# Altium footprint library Potentiometer.PcbLib: 8 footprints
Each footprint in its own frame and in the unit in brackets; x right, y up, seen from the top. Pads: shape width x height; smd on the part's side, far side on the other; paste and mask are expansions set on the pad; w line width, h text height; cw(c..) or ccw(c..) is an arc to the next point about the centre after c.
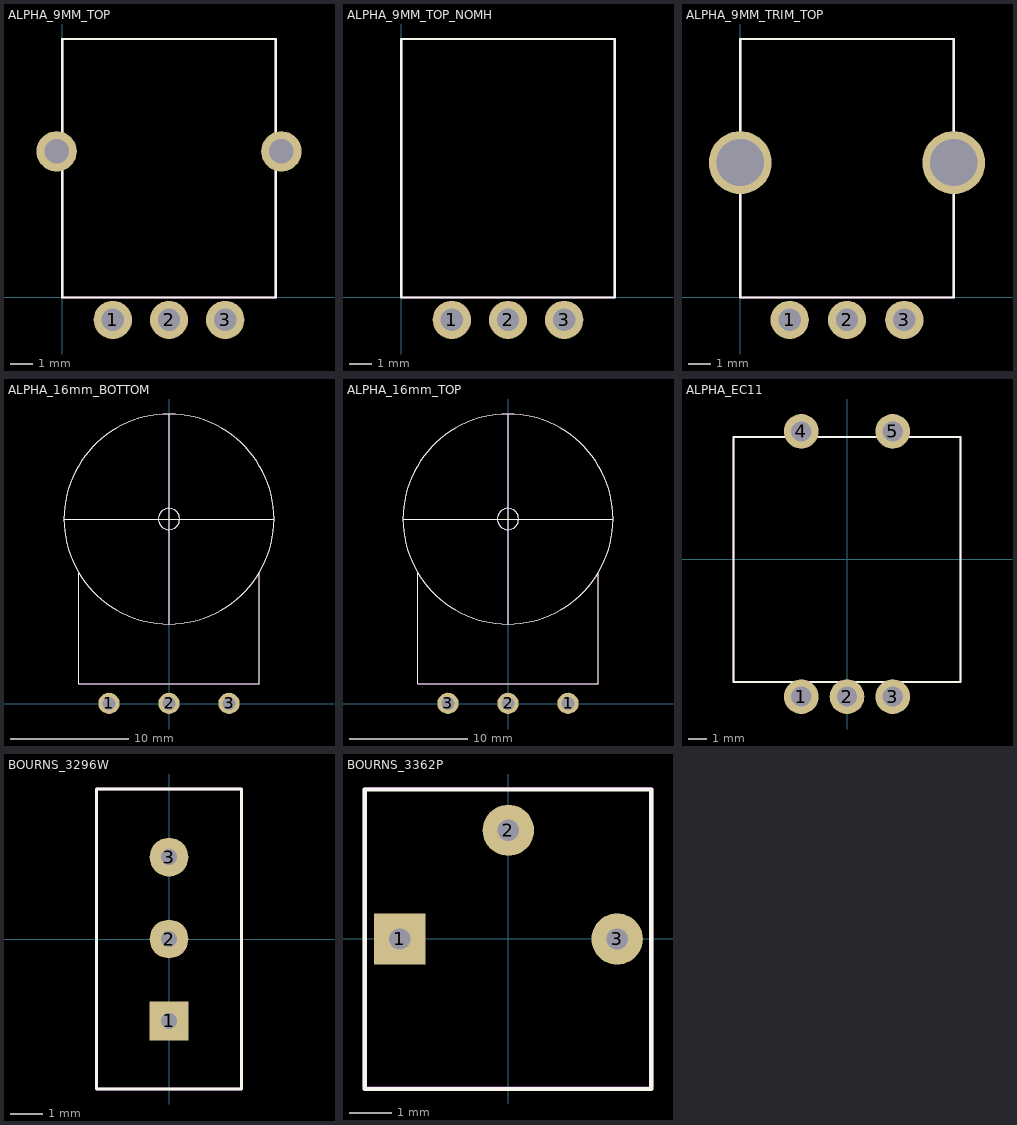
[diagram p0: the footprints below, top view; thin cyan lines are the x and y axes]

## ALPHA_9MM_TOP [mm]
pads (5):
  round 1.7 hole 1: 1(2.25,-1) 2(4.75,-1) 3(7.25,-1)
  round 1.8 hole 1.1: ""(-0.25,6.5) ""(9.75,6.5)
Top Overlay:
  lines w0.1: 0,0 0,11.5 9.5,11.5 9.5,0 0,0
Mechanical 2:
  lines w0.1: 0,0 0,11.5 9.5,11.5 9.5,0 0,0
3D body "ALPHA_9mm.step": height 30.04, standoff -3.6, extent -1.018,-0.993 10.511,11.357

## ALPHA_9MM_TOP_NOMH [mm]
pads (3):
  round 1.7 hole 1: 1(2.25,-1) 2(4.75,-1) 3(7.25,-1)
Top Overlay:
  lines w0.1: 0,0 0,11.5 9.5,11.5 9.5,0 0,0
Mechanical 2:
  lines w0.1: 0,0 0,11.5 9.5,11.5 9.5,0 0,0
3D body "ALPHA_9mm.step": height 30.04, standoff -3.6, extent -1.018,-0.993 10.511,11.357

## ALPHA_9MM_TRIM_TOP [mm]
pads (5):
  round 1.7 hole 1: 1(2.199,-1) 2(4.75,-1) 3(7.301,-1)
  round 2.8 hole 2.1: ""(0,6) ""(9.5,6)
Top Overlay:
  lines w0.1: 0,0 9.5,0 9.5,11.5 0,11.5 0,0
Mechanical 2:
  lines w0.1: 0,0 9.5,0 9.5,11.5 0,11.5 0,0
3D body "ALPHA_9mm_TRIM.step": height 29.4, standoff -3.79, extent -0.942,-1.15 10.442,11.5

## ALPHA_16mm_BOTTOM [mm]
pads (3):
  round 1.8 hole 1.1: 1(-5.08,0.016) 2(0,0.016) 3(5.08,0.016)
Top Overlay:
  circle w0.1: c0,15.621 r0.898
  circle w0.1: c0,15.621 r0.898
  lines w0.1: -8.89,15.621 ccw(c0,15.621) 0,6.731 ; -8.89,15.621 cw(c0,15.621) 0,24.511 ; -8.89,15.621 cw(c0,15.621) 0,24.511 ; -8.89,15.621 ccw(c0,15.621) 0,6.731 ; -8.89,15.621 8.89,15.621 ; -8.89,15.621 8.89,15.621 ; -7.62,1.667 7.62,1.667 ; -7.62,1.667 7.62,1.667 ; -7.62,1.667 -7.62,11.024 -7.62,1.667 ; 0,6.731 ccw(c0,15.621) 8.89,15.621 ; 0,6.731 ccw(c0,15.621) 8.89,15.621 ; 0,6.731 0,24.511 ; 0,6.731 0,24.511 ; 0,24.511 cw(c0,15.621) 8.89,15.621 ; 0,24.511 cw(c0,15.621) 8.89,15.621 ; 7.62,1.667 7.62,11.024 7.62,1.667
Mechanical 2:
  circle w0.1: c0,15.621 r0.898
  circle w0.1: c0,15.621 r0.898
  lines w0.1: -8.89,15.621 ccw(c0,15.621) 0,6.731 ; -8.89,15.621 cw(c0,15.621) 0,24.511 ; -8.89,15.621 cw(c0,15.621) 0,24.511 ; -8.89,15.621 ccw(c0,15.621) 0,6.731 ; -8.89,15.621 8.89,15.621 ; -8.89,15.621 8.89,15.621 ; -7.62,1.667 -7.62,11.024 -7.62,1.667 ; -7.62,1.667 7.62,1.667 ; -7.62,1.667 7.62,1.667 ; 0,6.731 ccw(c0,15.621) 8.89,15.621 ; 0,6.731 ccw(c0,15.621) 8.89,15.621 ; 0,6.731 0,24.511 ; 0,6.731 0,24.511 ; 0,24.511 cw(c0,15.621) 8.89,15.621 ; 0,24.511 cw(c0,15.621) 8.89,15.621 ; 7.62,1.667 7.62,11.024 7.62,1.667
3D body: height 0.25, standoff 0, extent 11.303,14.224 11.303,14.224
3D body: height 0.25, standoff 0, extent 11.303,13.843 11.303,13.843
3D body "ALPHA_16mm.STEP": height 27.09, standoff -3.41, extent -8.992,-0.311 9.008,24.949

## ALPHA_16mm_TOP [mm]
pads (3):
  round 1.8 hole 1.1: 1(5.08,0.016) 2(0,0.016) 3(-5.08,0.016)
Top Overlay:
  circle w0.1: c0,15.621 r0.898
  lines w0.1: -7.62,11.024 -7.62,1.667 7.62,1.667 7.62,11.024 ; -8.89,15.621 cw(c0,15.621) 0,24.511 ; -8.89,15.621 ccw(c0,15.621) 0,6.731 ; -8.89,15.621 8.89,15.621 ; 0,6.731 ccw(c0,15.621) 8.89,15.621 ; 0,6.731 0,24.511 ; 0,24.511 cw(c0,15.621) 8.89,15.621
Mechanical 2:
  circle w0.1: c0,15.621 r0.898
  lines w0.1: -7.62,11.024 -7.62,1.667 7.62,1.667 7.62,11.024 ; -8.89,15.621 ccw(c0,15.621) 0,6.731 ; -8.89,15.621 cw(c0,15.621) 0,24.511 ; -8.89,15.621 8.89,15.621 ; 0,6.731 ccw(c0,15.621) 8.89,15.621 ; 0,6.731 0,24.511 ; 0,24.511 cw(c0,15.621) 8.89,15.621
3D body: height 0.25, standoff 0, extent 11.303,14.224 11.303,14.224
3D body: height 0.25, standoff 0, extent 11.303,13.843 11.303,13.843
3D body "User Library-User Library-Potentiometer.STEP": height 24.38, standoff 0.25, extent -8.382,-0.406 8.382,24.536

## ALPHA_EC11 [mm]
pads (5):
  round 1.9 hole 1.1: 1(-2.5,-7.5) 2(0,-7.5) 3(2.5,-7.5) 4(-2.5,7) 5(2.5,7)
Top Overlay:
  lines w0.1: -6.2,-6.7 6.2,-6.7 6.2,-1.905 6.2,6.7 -6.2,6.7 -6.2,-1.905 -6.2,-6.7
Mechanical 2:
  lines w0.1: -6.2,-6.7 6.2,-6.7 6.2,-1.956 6.2,6.7 -6.2,6.7 -6.2,-1.956 -6.2,-6.7
3D body "EC11.STEP": height 31.6, standoff -3.47, extent -6.549,-7.726 6.549,7.4

## BOURNS_3296W [mm]
pads (3):
  rect 1.2x1.2 hole 0.5: 1(0,-2.54)
  round 1.2 hole 0.5: 2(0,0) 3(0,2.54)
Top Overlay:
  lines w0.1: -2.25,-4.65 2.25,-4.65 2.25,4.65 -2.25,4.65 -2.25,-4.65
Mechanical 2:
  lines w0.1: -2.25,-4.65 2.25,-4.65 2.25,4.65 -2.25,4.65 -2.25,-4.65
3D body "BOURNS_3296W.STEP": height 11.55, standoff -7.62, extent -2.415,-4.765 2.415,4.765

## BOURNS_3362P [mm]
pads (3):
  rect 1.2x1.2 hole 0.5: 1(-2.534,0)
  round 1.2 hole 0.5: 2(0.006,2.54) 3(2.546,0)
Top Overlay:
  lines w0.1: -3.353,-3.505 3.347,-3.505 3.347,3.495 -3.353,3.495 -3.353,-3.505
Mechanical 2:
  lines w0.1: -3.353,-3.495 3.347,-3.495 3.347,3.505 -3.353,3.505 -3.353,-3.495
3D body "TRIM_3362P.step": height 4.88, standoff -5.28, extent -3.353,-3.531 3.353,3.505